# EAGLE library part 6PIN (library 5051)
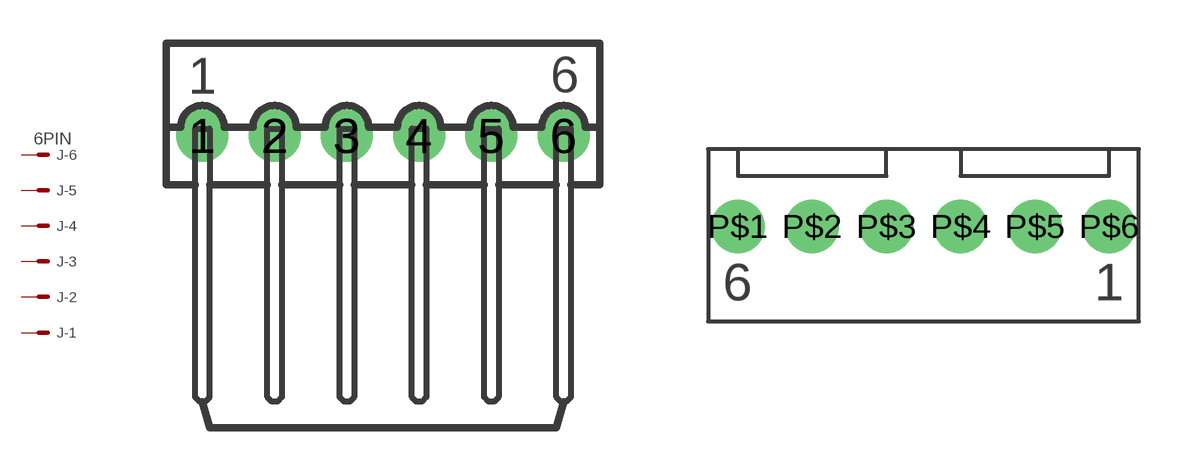
[diagram p0: symbol with the pads of 5046-06; footprints 5046-06, 5045-06]

Designator prefix J; gates -6=MV -5=M -4=M -3=M -2=M -1=M

## 6PIN5046-06  [5046-06]
1  -1:S  pas
2  -2:S  pas
3  -3:S  pas
4  -4:S  pas
5  -5:S  pas
6  -6:S  pas

## 6PIN5045-06  [5045-06]
P$1  -6:S  pas
P$2  -5:S  pas
P$3  -4:S  pas
P$4  -3:S  pas
P$5  -2:S  pas
P$6  -1:S  pas

## Footprint 5046-06 (pad centres in mm)
drill 1 pad 1.8: 1 -6.25,1.7; 2 -3.75,1.7; 3 -1.25,1.7; 4 1.25,1.7; 5 3.75,1.7; 6 6.25,1.7

## Footprint 5045-06 (pad centres in mm)
drill 1 pad 1.8: P$1 -6.25,0; P$2 -3.75,0; P$3 -1.25,0; P$4 1.25,0; P$5 3.75,0; P$6 6.25,0